# Altium footprint library POGO_SPI.PcbLib: 1 footprints
Each footprint in its own frame and in the unit in brackets; x right, y up, seen from the top. Pads: shape width x height; smd on the part's side, far side on the other; paste and mask are expansions set on the pad; w line width, h text height; cw(c..) or ccw(c..) is an arc to the next point about the centre after c.
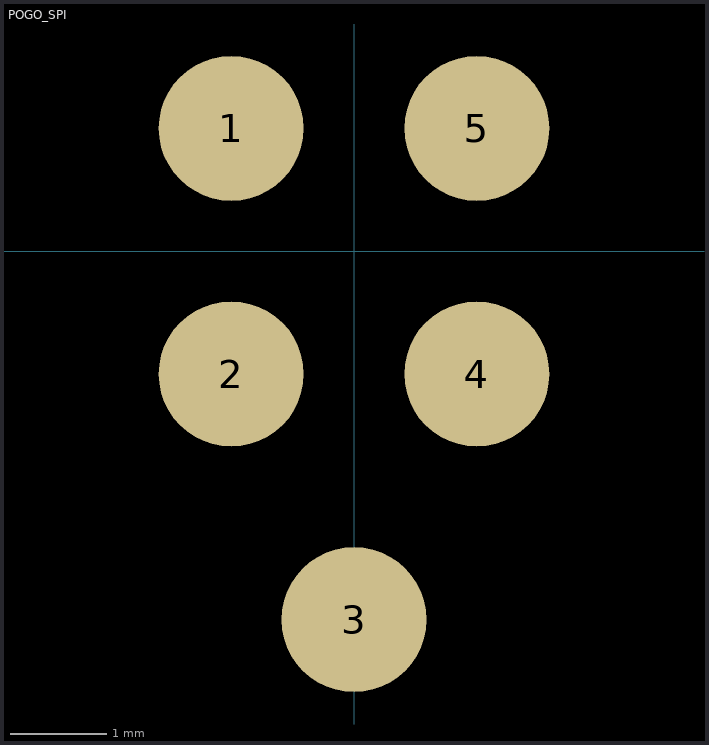
[diagram p0: the footprint, top view; thin cyan lines are the x and y axes]

## POGO_SPI [mm]
pads (5):
  round 1.5 smd: 1(-1.27,1.27) 2(-1.27,-1.27) 3(0,-3.81) 4(1.27,-1.27) 5(1.27,1.27)